# Altium integrated library Altium_LED.IntLib: 18 symbols
Pins are listed as number, name and electrical type; pins without a type are passive.

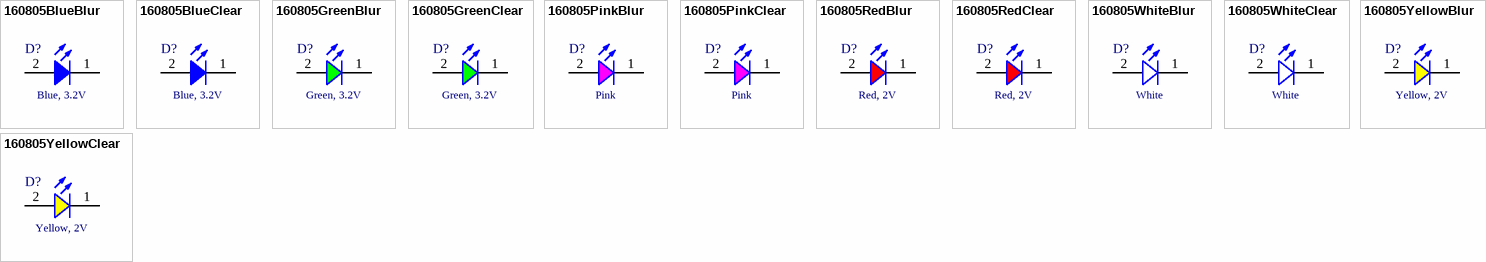
[diagram p0: symbols 160805BlueBlur to 160805YellowClear]

## 160805BlueBlur
designator D?, comment Blue, 3.2V
WL-SMCW SMT Mono-color Chip LED Blur, size 0805, Blue, 3.2V, 140deg; Manufacturer: Broadcom / Avago; Manufacturer Part Number: HSMR-C170; Color: Blue; Type: Blur; ComponentLink1Description: Datasheet; ComponentLink1URL: N/A; Supplier 1 URL: https://www.mouser.vn/ProductDetail/Broadcom-Avago/HSMR-C170?qs=YDL0qNrpDT75U8LW5zK4Qg%3D%3D; Supplier 2 URL: https://www.digikey.com/en/products/detail/broadcom-limited/HSMR-C170/637706; Supplier 3 URL: N/A; Value: Blue, 3.2V; Mount: SMD/SMT; Operating Temperature Max: + 85 C; Operating Temperature Min: - 40 C; Package / Case: 0805; Packaging: Tape and Reel; Supplier 1: Mouser; Supplier 1 Part Number: 630-HSMR-C170; Supplier 2: Digi-Key; Supplier 2 Part Number: 516-1445-2-ND; Supplier 3: thegioiic; Supplier 3 Part Number: N/A; LCSC Part #: N/A
footprint WL-SMCW_0805 (SMD Mono-color Chip LED, body 2.0x1.25mm)
pins: 1 K, 2 A

## 160805BlueClear
designator D?, comment Blue, 3.2V
WL-SMCW SMT Mono-color Chip LED Waterclear, size 0805, Blue, 3.2V, 140deg; Manufacturer: Wurth Elektronik; Manufacturer Part Number: 150080BS75000; Type: Clear; Color: Blue; ComponentLink1Description: Datasheet; ComponentLink1URL: N/A; Supplier 1 URL: https://www.mouser.vn/ProductDetail/Wurth-Elektronik/150080BS75000?qs=2kOmHSv6VfT2tBo3UPVqAQ%3D%3D; Supplier 2 URL: https://www.digikey.com/en/products/detail/liteon/LTST-C170TBKT/388527; Supplier 3 URL: https://www.thegioiic.com/led-xanh-duong-0805-dan-smd-trong-suot-harvatek; Value: Blue, 3.2V; Mount: SMD/SMT; Operating Temperature Max: + 85 C; Operating Temperature Min: - 40 C; Package / Case: 0805; Packaging: Tape and Reel; Supplier 1: Mouser; Supplier 1 Part Number: 710-150080BS75000; Supplier 2: Digi-Key; Supplier 2 Part Number: 160-1579-2-ND; Supplier 3: thegioiic; Supplier 3 Part Number: N/A; LCSC Part #: N/A
footprint WL-SMCW_0805 (SMD Mono-color Chip LED, body 2.0x1.25mm)
pins: 1 K, 2 A

## 160805GreenBlur
designator D?, comment Green, 3.2V
WL-SMCW SMT Mono-color Chip LED Blur, size 0805, Green, 3.2V, 140deg; Manufacturer: Broadcom / Avago; Manufacturer Part Number: HSMG-C170; Color: Green; Type: Blur; ComponentLink1Description: Datasheet; ComponentLink1URL: N/A; Supplier 1 URL: https://www.mouser.vn/ProductDetail/Broadcom-Avago/HSMG-C170?qs=YDL0qNrpDT4lm8ArMPkMEA%3D%3D; Supplier 2 URL: SML-LXT0805GW-TR Lumex Opto/Components Inc. | Optoelectronics | DigiKey; Supplier 3 URL: N/A; Value: Green, 3.2V; Mount: SMD/SMT; Operating Temperature Max: + 85 C; Operating Temperature Min: - 40 C; Package / Case: 0805; Packaging: Tape and Reel; Supplier 1: Mouser; Supplier 1 Part Number: 630-HSMG-C170; Supplier 2: Digi-Key; Supplier 2 Part Number: 67-1553-2-ND; Supplier 3: thegioiic; Supplier 3 Part Number: N/A; LCSC Part #: N/A
footprint WL-SMCW_0805 (SMD Mono-color Chip LED, body 2.0x1.25mm)
pins: 1 K, 2 A

## 160805GreenClear
designator D?, comment Green, 3.2V
WL-SMCW SMT Mono-color Chip LED Waterclear, size 0805, Green, 3.2V, 140deg; Manufacturer: Wurth Elektronik; Manufacturer Part Number: 150080VS75000; Type: Clear; Color: Green; ComponentLink1Description: Datasheet; ComponentLink1URL: N/A; Supplier 1 URL: https://www.mouser.vn/ProductDetail/Wurth-Elektronik/150080VS75000?qs=LlUlMxKIyB0tGHJmO6%252B0ug%3D%3D; Supplier 2 URL: https://www.digikey.com/en/products/detail/liteon/LTST-C171GKT/386793; Supplier 3 URL: https://www.thegioiic.com/led-xanh-la-0805-dan-smd-trong-suot; Value: Green, 3.2V; Mount: SMD/SMT; Operating Temperature Max: + 85 C; Operating Temperature Min: - 40 C; Package / Case: 0805; Packaging: Tape and Reel; Supplier 1: Mouser; Supplier 1 Part Number: 710-150080VS75000; Supplier 2: Digi-Key; Supplier 2 Part Number: 160-1423-2-ND; Supplier 3: thegioiic; Supplier 3 Part Number: N/A; LCSC Part #: N/A
footprint WL-SMCW_0805 (SMD Mono-color Chip LED, body 2.0x1.25mm)
pins: 1 K, 2 A

## 160805PinkBlur
designator D?, comment Pink
WL-SMCW SMT Mono-color Chip LED Blur, size 0805, Pink; Color: Pink; Type: Blur; ComponentLink1Description: Datasheet; ComponentLink1URL: N/A; Supplier 1 URL: N/A; Supplier 2 URL: https://www.digikey.com/en/products/detail/rohm-semiconductor/SMLD12HBC7W1/3587026; Supplier 3 URL: N/A; Value: Pink; Manufacturer: N/A; Manufacturer Part Number: N/A; Mount: SMD/SMT; Operating Temperature Max: + 85 C; Operating Temperature Min: - 40 C; Package / Case: 0805; Packaging: Tape and Reel; Supplier 1: Mouser; Supplier 1 Part Number: N/A; Supplier 2: Digi-Key; Supplier 2 Part Number: N/A; Supplier 3: thegioiic; Supplier 3 Part Number: N/A; LCSC Part #: N/A
footprint WL-SMCW_0805 (SMD Mono-color Chip LED, body 2.0x1.25mm)
pins: 1 K, 2 A

## 160805PinkClear
designator D?, comment Pink
WL-SMCW SMT Mono-color Chip LED Waterclear, size 0805, Pink; Type: Clear; Color: Pink; ComponentLink1Description: Datasheet; ComponentLink1URL: N/A; Supplier 1 URL: N/A; Supplier 2 URL: https://www.digikey.com/en/products/detail/panasonic-electronic-components/LNJP12X8ARA/2641773; Supplier 3 URL: https://www.thegioiic.com/led-hong-0805-dan-smd-trong-suot; Value: Pink; Manufacturer: N/A; Manufacturer Part Number: N/A; Mount: SMD/SMT; Operating Temperature Max: + 85 C; Operating Temperature Min: - 40 C; Package / Case: 0805; Packaging: Tape and Reel; Supplier 1: Mouser; Supplier 1 Part Number: N/A; Supplier 2: Digi-Key; Supplier 2 Part Number: N/A; Supplier 3: thegioiic; Supplier 3 Part Number: N/A; LCSC Part #: N/A
footprint WL-SMCW_0805 (SMD Mono-color Chip LED, body 2.0x1.25mm)
pins: 1 K, 2 A

## 160805RedBlur
designator D?, comment Red, 2V
WL-SMCW SMT Mono-color Chip LED Blur, size 0805, Red, 2V, 140deg; Manufacturer: ams OSRAM; Manufacturer Part Number: LSR976-NR-1; Color: Red; Type: Blur; ComponentLink1Description: Datasheet; ComponentLink1URL: N/A; Supplier 1 URL: https://www.mouser.vn/ProductDetail/ams-OSRAM/LS-R976-NR-1?qs=K5ta8V%252BWhtZhvCAe1sTZFg%3D%3D; Supplier 2 URL: https://www.digikey.com/en/products/detail/lumex-opto-components-inc/SML-LXT0805IW-TR/304365; Supplier 3 URL: N/A; Value: Red, 2V; Mount: SMD/SMT; Operating Temperature Max: + 85 C; Operating Temperature Min: - 40 C; Package / Case: 0805; Packaging: Tape and Reel; Supplier 1: Mouser; Supplier 1 Part Number: 720-LSR976-NR-1; Supplier 2: Digi-Key; Supplier 2 Part Number: 67-1552-2-ND; Supplier 3: thegioiic; Supplier 3 Part Number: N/A; LCSC Part #: N/A
footprint WL-SMCW_0805 (SMD Mono-color Chip LED, body 2.0x1.25mm)
pins: 1 K, 2 A

## 160805RedClear
designator D?, comment Red, 2V
WL-SMCW SMT Mono-color Chip LED Waterclear, size 0805, Red, 2V, 140deg; Manufacturer: Broadcom / Avago; Manufacturer Part Number: SML-H12U8TT86C; Type: Clear; Color: Red; ComponentLink1Description: Datasheet; ComponentLink1URL: N/A; Supplier 1 URL: https://www.mouser.vn/ProductDetail/ROHM-Semiconductor/SML-H12U8TT86C?qs=HXFqYaX1Q2xs%2F%252BL6XLQEvw%3D%3D; Supplier 2 URL: https://www.digikey.com/en/products/detail/liteon/LTST-C171KRKT/386801; Supplier 3 URL: https://www.thegioiic.com/led-do-0805-dan-smd-trong-suot-harvatek; Value: Red, 2V; Mount: SMD/SMT; Operating Temperature Max: + 85 C; Operating Temperature Min: - 40 C; Package / Case: 0805; Packaging: Tape and Reel; Supplier 1: Mouser; Supplier 1 Part Number: 755-SML-H12U8TT86C; Supplier 2: Digi-Key; Supplier 2 Part Number: 160-1427-2-ND; Supplier 3: thegioiic; Supplier 3 Part Number: N/A; LCSC Part #: N/A
footprint WL-SMCW_0805 (SMD Mono-color Chip LED, body 2.0x1.25mm)
pins: 1 K, 2 A

## 160805WhiteBlur
designator D?, comment White
WL-SMCW SMT Mono-color Chip LED Blur, size 0805, White; Manufacturer: Inolux; Manufacturer Part Number: IN-S85AT5UW; Color: White; Type: Blur; ComponentLink1Description: Datasheet; ComponentLink1URL: N/A; Supplier 1 URL: https://www.mouser.vn/ProductDetail/Inolux/IN-S85AT5UW?qs=fAHHVMwC%252BbgX8qoUxtYjNQ%3D%3D; Supplier 2 URL: https://www.digikey.com/en/products/detail/qt-brightek-qtb/QBLP631-IW/4814683; Supplier 3 URL: N/A; Value: White; Mount: SMD/SMT; Operating Temperature Max: + 85 C; Operating Temperature Min: - 40 C; Package / Case: 0805; Packaging: Tape and Reel; Supplier 1: Mouser; Supplier 1 Part Number: 743-IN-S85AT5UW; Supplier 2: Digi-Key; Supplier 2 Part Number: 1516-1085-2-ND; Supplier 3: thegioiic; Supplier 3 Part Number: N/A; LCSC Part #: N/A
footprint WL-SMCW_0805 (SMD Mono-color Chip LED, body 2.0x1.25mm)
pins: 1 K, 2 A

## 160805WhiteClear
designator D?, comment White
WL-SMCW SMT Mono-color Chip LED Waterclear, size 0805, White; Manufacturer: Broadcom / Avago; Manufacturer Part Number: SML-LX0805UWCTR; Type: Clear; Color: White; ComponentLink1Description: Datasheet; ComponentLink1URL: N/A; Supplier 1 URL: https://www.mouser.vn/ProductDetail/Lumex/SML-LX0805UWC-TR?qs=26yrLECgo495e2ft2n1zkA%3D%3D; Supplier 2 URL: https://www.digikey.com/en/products/detail/inolux/IN-S85AT5UW/7604913; Supplier 3 URL: https://www.thegioiic.com/led-trang-0805-dan-smd-trong-suot; Value: White; Mount: SMD/SMT; Operating Temperature Max: + 85 C; Operating Temperature Min: - 40 C; Package / Case: 0805; Packaging: Tape and Reel; Supplier 1: Mouser; Supplier 1 Part Number: 696-SML-LX0805UWCTR; Supplier 2: Digi-Key; Supplier 2 Part Number: 1830-1080-2-ND; Supplier 3: thegioiic; Supplier 3 Part Number: N/A; LCSC Part #: N/A
footprint WL-SMCW_0805 (SMD Mono-color Chip LED, body 2.0x1.25mm)
pins: 1 K, 2 A

## 160805YellowBlur
designator D?, comment Yellow, 2V
WL-SMCW SMT Mono-color Chip LED Blur, size 0805, Yellow, 2V, 140deg; Manufacturer: Stanley Electric; Manufacturer Part Number: FY1112HTR; Color: Yellow; Type: Blur; ComponentLink1Description: Datasheet; ComponentLink1URL: N/A; Supplier 1 URL: https://www.mouser.vn/ProductDetail/Stanley-Electric/FY1112H-TR?qs=byeeYqUIh0M%2F1I90%252BhjkXg%3D%3D; Supplier 2 URL: https://www.digikey.com/en/products/detail/lumex-opto-components-inc/SML-LXT0805YW-TR/304369; Supplier 3 URL: N/A; Value: Yellow, 2V; Mount: SMD/SMT; Operating Temperature Max: + 85 C; Operating Temperature Min: - 40 C; Package / Case: 0805; Packaging: Tape and Reel; Supplier 1: Mouser; Supplier 1 Part Number: 327-FY1112HTR; Supplier 2: Digi-Key; Supplier 2 Part Number: 67-1554-2-ND; Supplier 3: thegioiic; Supplier 3 Part Number: N/A; LCSC Part #: N/A
footprint WL-SMCW_0805 (SMD Mono-color Chip LED, body 2.0x1.25mm)
pins: 1 K, 2 A

## 160805YellowClear
designator D?, comment Yellow, 2V
WL-SMCW SMT Mono-color Chip LED Waterclear, size 0805, Yellow, 2V, 140deg; Manufacturer: Wurth Elektronik; Manufacturer Part Number: 150080YS75000; Type: Clear; Color: Yellow; ComponentLink1Description: Datasheet; ComponentLink1URL: N/A; Supplier 1 URL: https://www.mouser.vn/ProductDetail/Wurth-Elektronik/150080YS75000?qs=LlUlMxKIyB3k0fZGrDMI2w%3D%3D; Supplier 2 URL: https://www.digikey.com/en/products/detail/liteon/LTST-C170KSKT/386781; Supplier 3 URL: https://www.thegioiic.com/led-vang-0805-dan-smd-trong-suot-harvatek; Value: Yellow, 2V; Mount: SMD/SMT; Operating Temperature Max: + 85 C; Operating Temperature Min: - 40 C; Package / Case: 0805; Packaging: Tape and Reel; Supplier 1: Mouser; Supplier 1 Part Number: 710-150080YS75000; Supplier 2: Digi-Key; Supplier 2 Part Number: 160-1416-2-ND; Supplier 3: thegioiic; Supplier 3 Part Number: N/A; LCSC Part #: N/A
footprint WL-SMCW_0805 (SMD Mono-color Chip LED, body 2.0x1.25mm)
pins: 1 K, 2 A


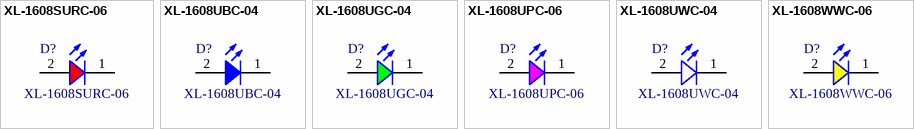
[diagram p1: symbols XL-1608SURC-06 to XL-1608WWC-06]

## XL-1608SURC-06
designator D?
Red 625nm LED Indication - Discrete 2.3V 0603; Manufacturer: XINGLIGHT; Type: Clear; Color: Red; ComponentLink1Description: Datasheet; ComponentLink1URL: https://www.lcsc.com/datasheet/C965807.pdf; Supplier 1 URL: N/A; Supplier 2 URL: N/A; Supplier 3 URL: https://www.thegioiic.com/led-do-0603-dan-smd-trong-suot; Value: XL-1608SURC-06; Manufacturer Part Number: XL-1608SURC-06; Mount: SMD/SMT; Operating Temperature Max: + 85 C; Operating Temperature Min: - 40 C; Package / Case: 0603; Packaging: Tape and Reel; Supplier 1: Mouser; Supplier 1 Part Number: N/A; Supplier 2: Digi-Key; Supplier 2 Part Number: N/A; Supplier 3: thegioiic; Supplier 3 Part Number: N/A; LCSC Part #: C965799
footprint WL-SMCW_0603_H=0.7mm (SMD Mono-color Chip LED, body 1.6x0.8mm)
pins: 1 K, 2 A

## XL-1608UBC-04
designator D?
Blue 470nm LED Indication - Discrete 3.3V 0603; Manufacturer: XINGLIGHT; Type: Clear; Color: Blue; ComponentLink1Description: Datasheet; ComponentLink1URL: https://www.lcsc.com/datasheet/C965807.pdf; Supplier 1 URL: N/A; Supplier 2 URL: N/A; Supplier 3 URL: https://www.thegioiic.com/led-xanh-duong-0603-dan-smd-trong-suot; Value: XL-1608UBC-04; Manufacturer Part Number: XL-1608UBC-04; Mount: SMD/SMT; Operating Temperature Max: + 85 C; Operating Temperature Min: - 40 C; Package / Case: 0603; Packaging: Tape and Reel; Supplier 1: Mouser; Supplier 1 Part Number: N/A; Supplier 2: Digi-Key; Supplier 2 Part Number: N/A; Supplier 3: thegioiic; Supplier 3 Part Number: N/A; LCSC Part #: C965807
footprint WL-SMCW_0603_H=0.7mm (SMD Mono-color Chip LED, body 1.6x0.8mm)
pins: 1 K, 2 A

## XL-1608UGC-04
designator D?
Emerald Green 525nm LED Indication - Discrete 3.3V 0603; Manufacturer: XINGLIGHT; Type: Clear; Color: Green; ComponentLink1Description: Datasheet; ComponentLink1URL: https://www.lcsc.com/datasheet/C965807.pdf; Supplier 1 URL: N/A; Supplier 2 URL: N/A; Supplier 3 URL: https://www.thegioiic.com/led-xanh-la-0603-dan-smd-trong-suot; Value: XL-1608UGC-04; Mount: SMD/SMT; Operating Temperature Max: + 85 C; Operating Temperature Min: - 40 C; Package / Case: 0603; Packaging: Tape and Reel; Supplier 1: Mouser; Supplier 1 Part Number: N/A; Supplier 2: Digi-Key; Supplier 2 Part Number: N/A; Supplier 3: thegioiic; Supplier 3 Part Number: N/A; LCSC Part #: C965804; Manufacturer Part Number: XL-1608UGC-04
footprint WL-SMCW_0603_H=0.7mm (SMD Mono-color Chip LED, body 1.6x0.8mm)
pins: 1 K, 2 A

## XL-1608UPC-06
designator D?
Pink LED Indication - Discrete 3.3V 0603; Manufacturer: XINGLIGHT; Type: Clear; Color: Pink; ComponentLink1Description: Datasheet; ComponentLink1URL: https://www.lcsc.com/datasheet/C965807.pdf; Supplier 1 URL: N/A; Supplier 2 URL: N/A; Supplier 3 URL: https://www.thegioiic.com/led-hong-0603-dan-smd-trong-suot; Value: XL-1608UPC-06; Mount: SMD/SMT; Operating Temperature Max: + 85 C; Operating Temperature Min: - 40 C; Package / Case: 0603; Packaging: Tape and Reel; Supplier 1: Mouser; Supplier 1 Part Number: N/A; Supplier 2: Digi-Key; Supplier 2 Part Number: N/A; Supplier 3: thegioiic; Supplier 3 Part Number: N/A; LCSC Part #: C2977076; Manufacturer Part Number: XL-1608UPC-06
footprint WL-SMCW_0603_H=0.7mm (SMD Mono-color Chip LED, body 1.6x0.8mm)
pins: 1 K, 2 A

## XL-1608UWC-04
designator D?
White LED Indication - Discrete 2.7V 0603; Manufacturer: XINGLIGHT; Type: Clear; Color: White; ComponentLink1Description: Datasheet; ComponentLink1URL: https://www.lcsc.com/datasheet/C965807.pdf; Supplier 1 URL: N/A; Supplier 2 URL: N/A; Supplier 3 URL: https://www.thegioiic.com/led-trang-0603-dan-smd-trong-suot; Value: XL-1608UWC-04; Manufacturer Part Number: XL-1608UWC-04; Mount: SMD/SMT; Operating Temperature Max: + 85 C; Operating Temperature Min: - 40 C; Package / Case: 0603; Packaging: Tape and Reel; Supplier 1: Mouser; Supplier 1 Part Number: N/A; Supplier 2: Digi-Key; Supplier 2 Part Number: N/A; Supplier 3: thegioiic; Supplier 3 Part Number: N/A; LCSC Part #: C965808
footprint WL-SMCW_0603_H=0.7mm (SMD Mono-color Chip LED, body 1.6x0.8mm)
pins: 1 K, 2 A

## XL-1608WWC-06
designator D?
Warm White LED Indication - Discrete 3.3V 0603; Manufacturer: XINGLIGHT; Color: Yellow; Type: Clear; ComponentLink1Description: Datasheet; ComponentLink1URL: https://www.lcsc.com/datasheet/C965807.pdf; Supplier 1 URL: N/A; Supplier 2 URL: N/A; Supplier 3 URL: https://icdayroi.com/led-yellow-0603; Value: XL-1608WWC-06; Manufacturer Part Number: XL-1608WWC-06; Mount: SMD/SMT; Operating Temperature Max: + 85 C; Operating Temperature Min: - 40 C; Package / Case: 0603; Packaging: Tape and Reel; Supplier 1: Mouser; Supplier 1 Part Number: N/A; Supplier 2: Digi-Key; Supplier 2 Part Number: N/A; Supplier 3: ICDayRoi; Supplier 3 Part Number: N/A; LCSC Part #: C965810
footprint WL-SMCW_0603_H=0.7mm (SMD Mono-color Chip LED, body 1.6x0.8mm)
pins: 1 K, 2 A